# Altium footprint library CN_MSTB_2_5_3-GF-5_08.PcbLib: 1 footprints
Each footprint in its own frame and in the unit in brackets; x right, y up, seen from the top. Pads: shape width x height; smd on the part's side, far side on the other; paste and mask are expansions set on the pad; w line width, h text height; cw(c..) or ccw(c..) is an arc to the next point about the centre after c.
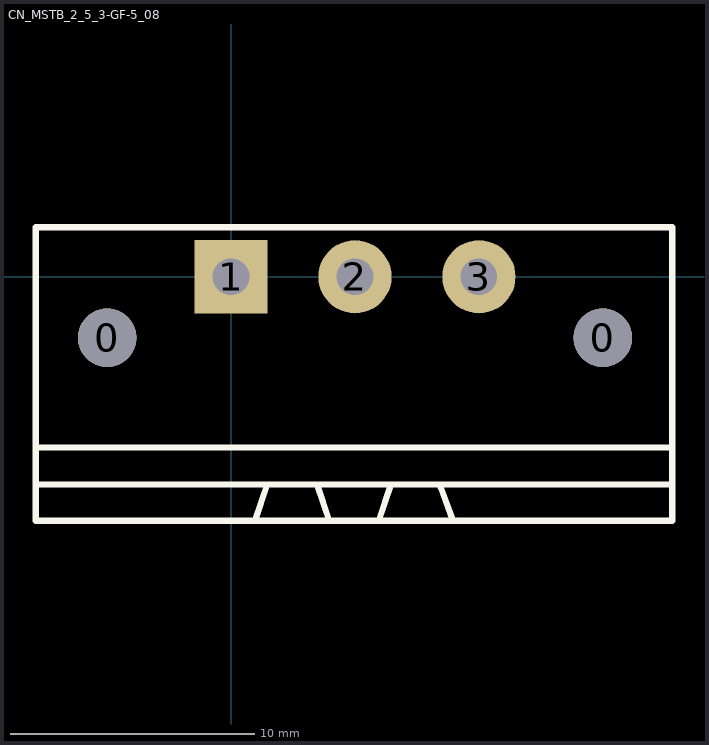
[diagram p0: the footprint, top view; thin cyan lines are the x and y axes]

## CN_MSTB_2_5_3-GF-5_08 [mm] "MSTB 2,5/ 3-GF-5,08"
pads (5):
  round 2.4 hole 2.4 unplated: 0(-5.08,-2.5) 0(15.24,-2.5)
  rect 3x3 hole 1.5: 1(0,0)
  round 3 hole 1.5: 2(5.08,0) 3(10.16,0)
Top Overlay:
  lines w0.254: -8,-8.508 18,-8.5 ; -8,-7 18,-7 ; 0.976,-10 1.484,-8.508 ; 3.516,-8.508 4.024,-10 ; 6.056,-10 6.564,-8.508 ; 8.596,-8.636 9.104,-10 ; 18,-10 -8,-10 -8,2.03 18.08,2.03 18.08,-10
3D body: height 8.6, standoff -3.5, extent -7.62,-10 17.78,2.002